# EAGLE library part MAX3107 (library SKAARHOJ)
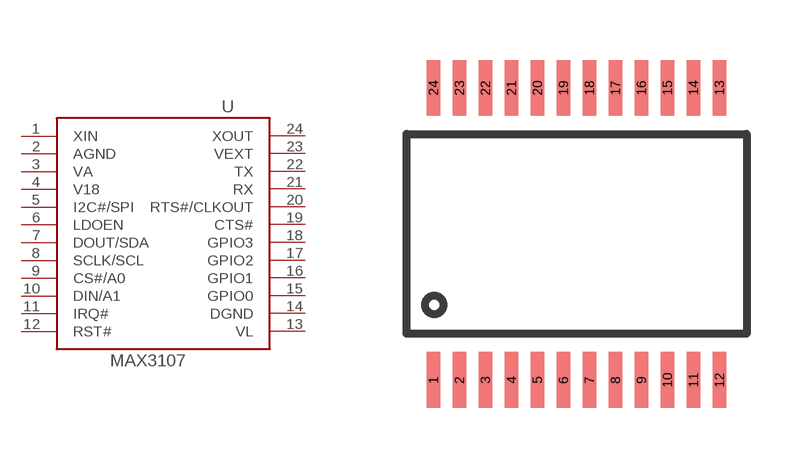
[diagram p62: symbol with the pads of SSOP24; footprint SSOP24]

Designator prefix -

## MAX3107  [SSOP24]
1  XIN
2  AGND  pwr
3  VA  pwr
4  V18  out
5  I2C#/SPI  in
6  LDOEN  in
7  DOUT/SDA
8  SCLK/SCL  in
9  CS#/A0  in
10  DIN/A1  in
11  IRQ#  out
12  RST#  in
13  VL  pwr
14  DGND  pwr
15  GPIO0
16  GPIO1
17  GPIO2
18  GPIO3
19  CTS#
20  RTS#/CLKOUT
21  RX  in
22  TX  out
23  VEXT  pwr
24  XOUT

## Footprint SSOP24 (pad centres in mm)
smd 0.348 x 1.397: 1 -3.575,-3.656; 2 -2.925,-3.656; 3 -2.275,-3.656; 4 -1.625,-3.656; 5 -0.975,-3.656; 6 -0.325,-3.656; 7 0.325,-3.656; 8 0.975,-3.656; 9 1.625,-3.656; 10 2.275,-3.656; 11 2.925,-3.656; 12 3.575,-3.656; 13 3.575,3.656; 14 2.925,3.656; 15 2.275,3.656; 16 1.625,3.656; 17 0.975,3.656; 18 0.325,3.656; 19 -0.325,3.656; 20 -0.975,3.656; 21 -1.625,3.656; 22 -2.275,3.656; 23 -2.925,3.656; 24 -3.575,3.656